# EAGLE library part ULN2803A (library CorruptCore)
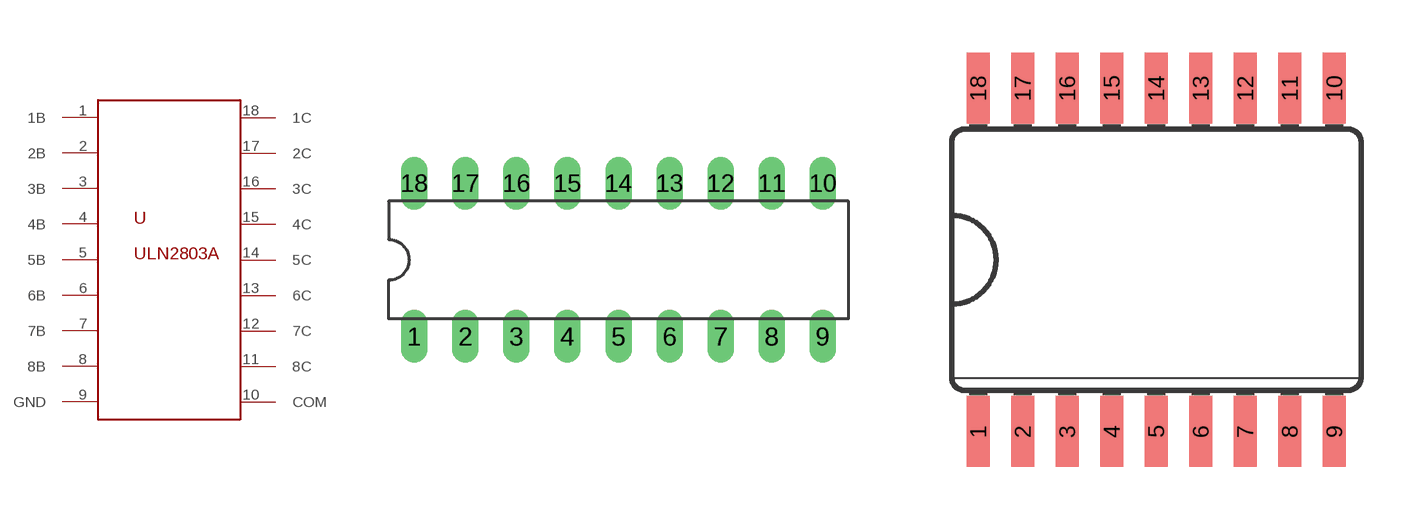
[diagram p0: symbol with the pads of DIL18; footprints DIL18, SO18L]

Designator prefix -

## ULN2803ADIL18  [DIL18]
1  1B
2  2B
3  3B
4  4B
5  5B
6  6B
7  7B
8  8B
9  GND
10  COM
11  8C
12  7C
13  6C
14  5C
15  4C
16  3C
17  2C
18  1C

## ULN2803ASOIC18  [SO18L]
Pads as for DIL18

## Footprint DIL18 (pad centres in mm)
Dual In Line Package
drill 0.813 long: 1 -10.16,-3.81; 2 -7.62,-3.81; 3 -5.08,-3.81; 4 -2.54,-3.81; 5 0,-3.81; 6 2.54,-3.81; 7 5.08,-3.81; 8 7.62,-3.81; 9 10.16,-3.81; 10 10.16,3.81; 11 7.62,3.81; 12 5.08,3.81; 13 2.54,3.81; 14 0,3.81; 15 -2.54,3.81; 16 -5.08,3.81; 17 -7.62,3.81; 18 -10.16,3.81

## Footprint SO18L (pad centres in mm)
Small Outline Package
smd 0.66 x 2.032: 1 -5.08,-4.902; 2 -3.81,-4.902; 3 -2.54,-4.902; 4 -1.27,-4.902; 5 0,-4.902; 6 1.27,-4.902; 7 2.54,-4.902; 8 3.81,-4.902; 9 5.08,-4.902; 10 5.08,4.902; 11 3.81,4.902; 12 2.54,4.902; 13 1.27,4.902; 14 0,4.902; 15 -1.27,4.902; 16 -2.54,4.902; 17 -3.81,4.902; 18 -5.08,4.902